# Altium schematic symbol library PCA9633TK.SchLib: 1 symbol
Pins are listed as number, name and electrical type; pins without a type are passive.

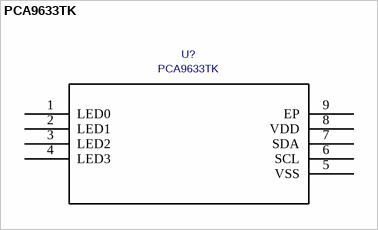
[diagram p0: symbol PCA9633TK]

## PCA9633TK
designator U?
Mfr_Name: NXP; C: Copyright (C) 2015 Accelerated Designs. All rights reserved; Value: PCA9633TK; Copyright: Copyright (C) 2023 Ultra Librarian. All rights reserved.; Manufacturer_Part_Number: PCA9633TK; Digi-Key_Part_Number_1: 568-3239-1-ND; Digi-Key_Part_Number_2: 568-3239-2-ND
footprint SOT908-1_NXP
pins: 1 LED0, 2 LED1, 3 LED2, 4 LED3, 5 VSS, 6 SCL, 7 SDA, 8 VDD, 9 EP